# EAGLE library part AP63357DV-7 (library voltageRegulator_switching)
Switching Voltage Regulators DCDC Conv HV Buck V-DFN3020-13 T&R 3K Source: Datasheet <https://www.diodes.com//assets/Datasheets/AP63356-AP63357.pdf>
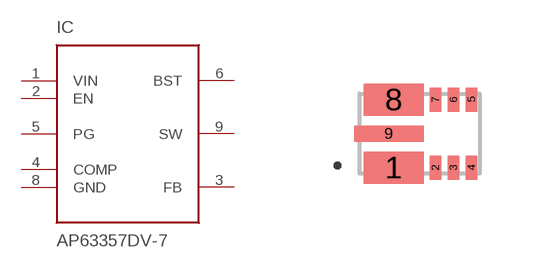
[diagram p0: symbol with the pads of AP63357DV7; footprint AP63357DV7]

Designator prefix IC

## AP63357DV-7 (ARROW_PART_NUMBER: AP63357DV-7; ARROW_PRICE-STOCK: https://www.arrow.com/en/products/ap63357dv-7/diodes-incorporated?utm_currency=USD&region=europe; DESCRIPTION: Switching Voltage Regulators DCDC Conv HV Buck V-DFN3020-13 T&R 3K; HEIGHT: 0.85mm; MANUFACTURER_NAME: Diodes Incorporated; MANUFACTURER_PART_NUMBER: AP63357DV-7; MOUSER_PART_NUMBER: 621-AP63357DV-7; MOUSER_PRICE-STOCK: https://www.mouser.co.uk/ProductDetail/Diodes-Incorporated/AP63357DV-7?qs=bZr6mbWTK5nW8IurdDD0lw%3D%3D)  [AP63357DV7]
1  VIN
2  EN
3  FB
4  COMP
5  PG
6  BST
8  GND
9  SW

## Footprint AP63357DV7 (pad centres in mm)
V-DFN3020-13 (Type A)
smd 1.5 x 0.8: 1 -0.65,-0.85; 8 -0.65,0.85
smd 0.279 x 0.6: 2 0.4,-0.85; 3 0.85,-0.85; 4 1.3,-0.85; 5 1.3,0.85; 6 0.85,0.85; 7 0.4,0.85
smd 1.73 x 0.4: 9 -0.765,0